# Altium integrated library 4 wire pad.IntLib: 1 symbol
Pins are listed as number, name and electrical type; pins without a type are passive.

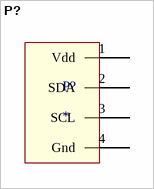
[diagram p0: symbol P?]

## P?
designator P?
wire pad
footprint P? (4 wire pad)
pins: 1 Vdd, 2 SDA, 3 SCL, 4 Gnd